# EAGLE library part MPU-6500 (library ICs)
Gyro 6-axis MotionTracking
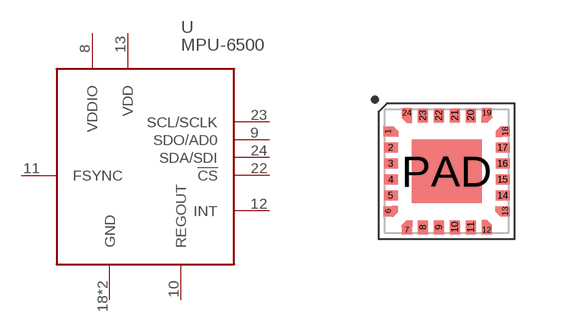
[diagram p114: symbol with the pads of QFN24_3X3_MPU-6500; footprint QFN24_3X3_MPU-6500]

Designator prefix U

## MPU-6500 (DIGIKEY: 1428-1011-1-ND; PRICE_PER: 6.5; VALUE: MPU6500)  [QFN24_3X3_MPU-6500]
8  VDDIO
9  SDO/AD0
10  REGOUT
11  FSYNC
12  INT
13  VDD
18  GND
20  GND
22  !CS
23  SCL/SCLK
24  SDA/SDI

## Footprint QFN24_3X3_MPU-6500 (pad centres in mm)
smd 0.22 x 0.25: 1 -1.336,1.27; 6 -1.336,-0.73; 13 1.596,-0.73; 18 1.596,1.27
smd 0.35 x 0.25: 2 -1.27,0.87; 3 -1.27,0.47; 4 -1.27,0.07; 5 -1.27,-0.33; 14 1.53,-0.33; 15 1.53,0.07; 16 1.53,0.47; 17 1.53,0.87
smd 0.25 x 0.22: 7 -0.87,-1.196; 12 1.13,-1.196; 19 1.13,1.736; 24 -0.87,1.736
smd 0.25 x 0.35: 8 -0.47,-1.13; 9 -0.07,-1.13; 10 0.33,-1.13; 11 0.73,-1.13; 20 0.73,1.67; 21 0.33,1.67; 22 -0.07,1.67; 23 -0.47,1.67
smd 1.75 x 1.59: PAD 0.13,0.27